# Altium footprint library 采集主板V1.1_ZM_20210713.PcbLib: 37 footprints (part 1 of 3)
Each footprint in its own frame and in the unit in brackets; x right, y up, seen from the top. Pads: shape width x height; smd on the part's side, far side on the other; paste and mask are expansions set on the pad; w line width, h text height; cw(c..) or ccw(c..) is an arc to the next point about the centre after c.
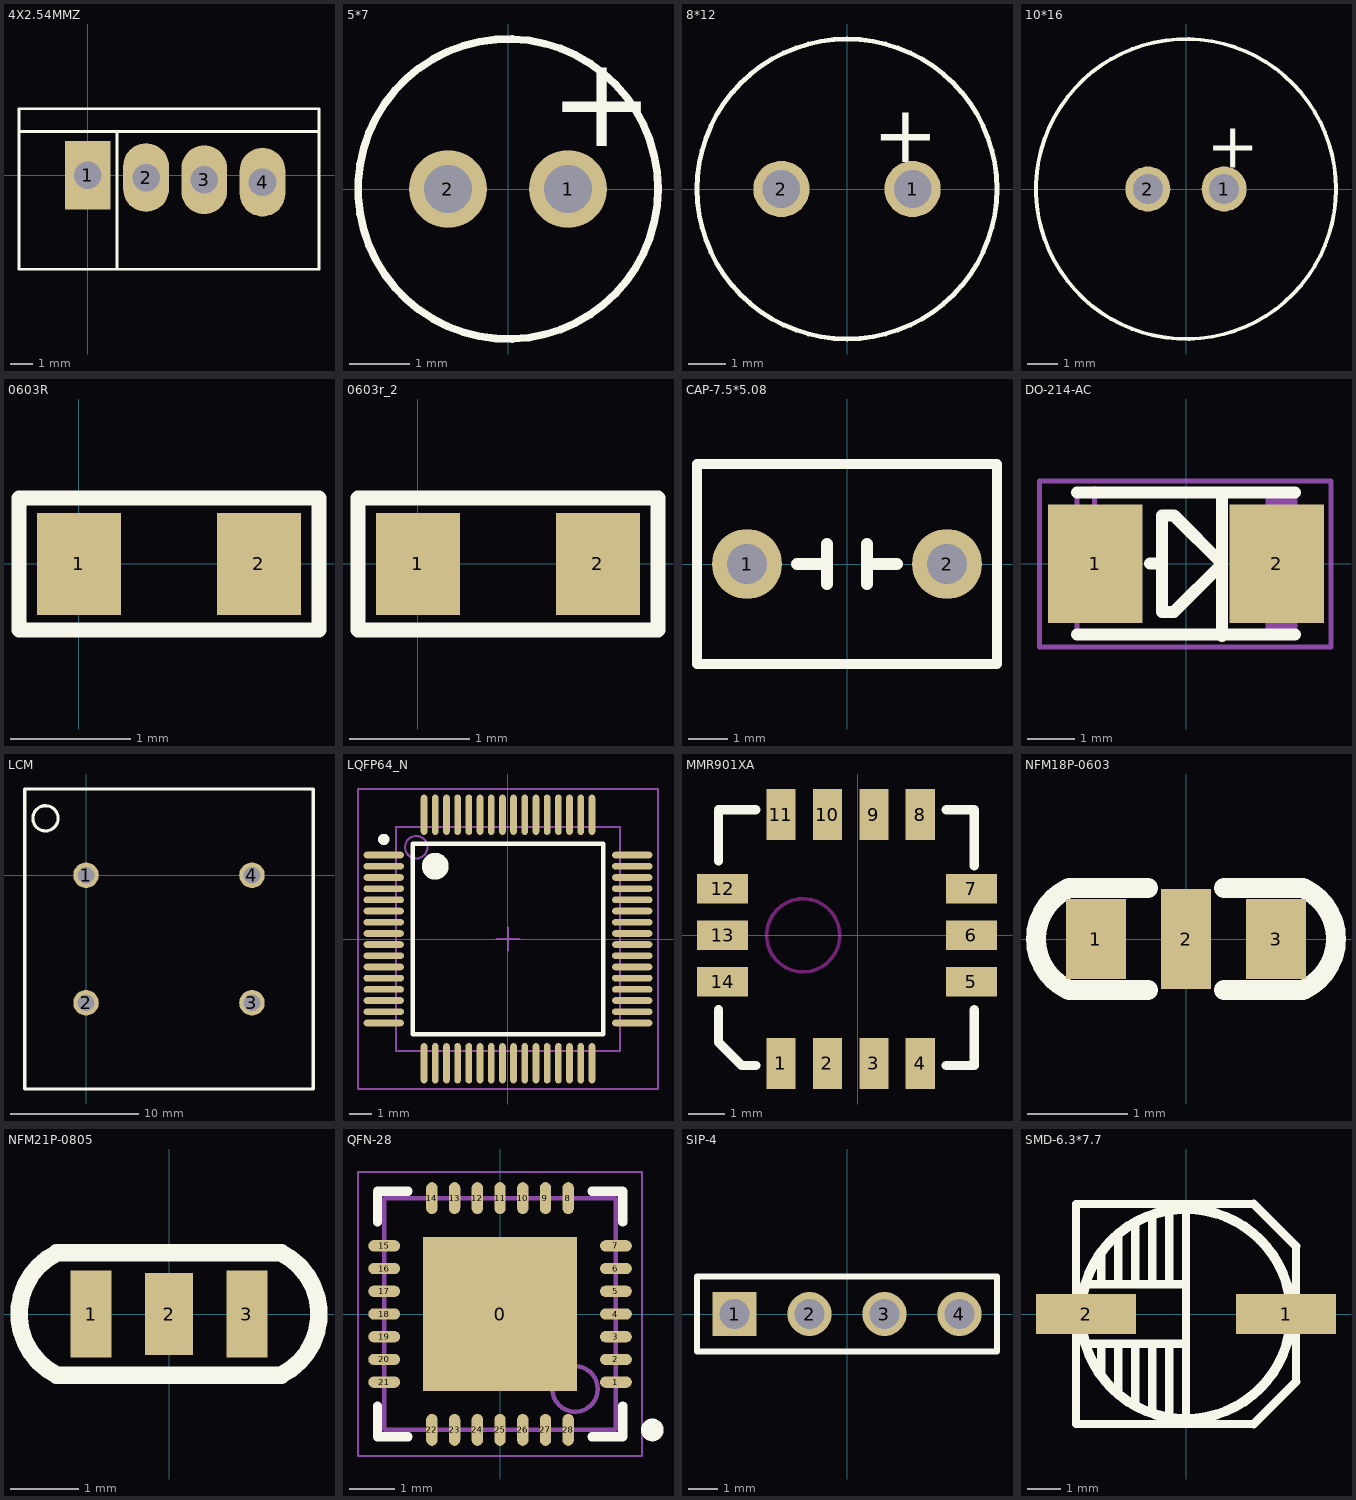
[diagram p0: the footprints below, top view; thin cyan lines are the x and y axes]

## 4X2.54MMZ [mm] "接插件2.54-3P"
height 10
pads (4):
  rect 2x3 hole 1.2: 1(0,0)
  oval 2x3 hole 1.2: 2(2.54,-0.1) 3(5.08,-0.2) 4(7.62,-0.3)
Top Overlay:
  lines w0.127: -3,1.9 10.084,1.9 ; 1.27,-4.1 1.27,1.9 ; -3,-4.1 10.084,-4.1 10.084,2.9 -3,2.9 -3,-4.1

## 5*7 [mm]
pads (2):
  round 1.3 hole 0.8: 1(1,0) 2(-1,0)
Top Overlay:
  circle w0.127: c0,0 r2.5
  text "+" at 0.686,0.711 h1.52

## 8*12 [mm]
pads (2):
  round 1.5 hole 1: 1(1.75,0) 2(-1.75,0)
Top Overlay:
  circle w0.127: c0,0 r4
  text "+" at 0.686,0.711 h1.52

## 10*16 [mm]
pads (2):
  round 1.5 hole 1: 1(1.27,0) 2(-1.27,0)
Top Overlay:
  circle w0.127: c0,0 r5
  text "+" at 0.686,0.711 h1.52

## 0603R [mm]
pads (2):
  rect 0.7x0.85 smd: 1(0,0) 2(1.5,0)
Top Overlay:
  lines w0.127: -0.5,-0.55 2,-0.55 2,0.55 -0.5,0.55 -0.5,-0.55

## 0603r_2 [mm]
pads (2):
  rect 0.7x0.85 smd: 1(0,0) 2(1.5,0)
Top Overlay:
  lines w0.127: -0.5,-0.55 2,-0.55 2,0.55 -0.5,0.55 -0.5,-0.55

## CAP-7.5*5.08 [mil]
height 393.7
pads (2):
  round 70 hole 40: 1(-100,0) 2(100,0)
Top Overlay:
  lines w10: -150,-100 -150,100 150,100 150,-100 -150,-100
  lines w11.81: -50,0 -20,0 ; -20,-20 -20,20 ; 20,-20 20,20 ; 20,0 50,0

## DO-214-AC [mm] "Molded Diode, 2-Leads, Body 4.5x2.6mm, IPC Medium Density"
height 2.438
pads (2):
  rect 2x2.5 smd: 1(-1.915,0) 2(1.915,0)
Top Overlay:
  lines w0.254: -2.3,-1.5 2.3,-1.5 ; -2.3,1.5 2.3,1.5 ; -0.762,0 -0.508,0 ; 0.762,-1.524 0.762,1.473 ; -0.508,-1.016 -0.254,-1.016 0.762,0 -0.254,1.016 -0.508,1.016 -0.508,-1.016
Mechanical 13:
  rectangle: 1.681,-1.475 2.3,1.475
  lines w0.1: -2.3,-1.475 -2.3,1.475 2.3,1.475 2.3,-1.475 -2.3,-1.475
Mechanical 15:
  lines w0.1: -2.43,1.092 -1.43,1.092 ; -1.93,0.592 -1.93,1.592 ; -3.09,-1.758 3.06,-1.758 3.06,1.742 -3.09,1.742 -3.09,-1.758
3D body: height 2.4, standoff 0, extent -2.3,-1.35 2.3,1.35

## LCM [mm]
pads (4):
  round 2 hole 1.3: 1(0,0) 2(0,-10) 3(13,-10) 4(13,0)
Top Overlay:
  circle w0.254: c-3.179,4.453 r0.988
  lines w0.254: -4.8,-16.75 -4.8,6.75 17.8,6.75 17.8,-16.75 -4.8,-16.75

## LQFP64_N [mm] "Thin QFP, 64-Leads, Body 10x10mm, Pitch 0.5mm, IPC Medium Density"
height 1.6
pads (64):
  oval 1.8x0.3 smd: 1(-5.55,3.75) 2(-5.55,3.25) 3(-5.55,2.75) 4(-5.55,2.25) 5(-5.55,1.75) 6(-5.55,1.25) 7(-5.55,0.75) 8(-5.55,0.25) 9(-5.55,-0.25) 10(-5.55,-0.75) 11(-5.55,-1.25) 12(-5.55,-1.75) 13(-5.55,-2.25) 14(-5.55,-2.75) 15(-5.55,-3.25) 16(-5.55,-3.75) 33(5.55,-3.75) 34(5.55,-3.25) 35(5.55,-2.75) 36(5.55,-2.25) 37(5.55,-1.75) 38(5.55,-1.25) 39(5.55,-0.75) 40(5.55,-0.25) 41(5.55,0.25) 42(5.55,0.75) 43(5.55,1.25) 44(5.55,1.75) 45(5.55,2.25) 46(5.55,2.75) 47(5.55,3.25) 48(5.55,3.75)
  oval 0.3x1.8 smd: 17(-3.75,-5.55) 18(-3.25,-5.55) 19(-2.75,-5.55) 20(-2.25,-5.55) 21(-1.75,-5.55) 22(-1.25,-5.55) 23(-0.75,-5.55) 24(-0.25,-5.55) 25(0.25,-5.55) 26(0.75,-5.55) 27(1.25,-5.55) 28(1.75,-5.55) 29(2.25,-5.55) 30(2.75,-5.55) 31(3.25,-5.55) 32(3.75,-5.55) 49(3.75,5.55) 50(3.25,5.55) 51(2.75,5.55) 52(2.25,5.55) 53(1.75,5.55) 54(1.25,5.55) 55(0.75,5.55) 56(0.25,5.55) 57(-0.25,5.55) 58(-0.75,5.55) 59(-1.25,5.55) 60(-1.75,5.55) 61(-2.25,5.55) 62(-2.75,5.55) 63(-3.25,5.55) 64(-3.75,5.55)
Top Overlay:
  circle w0.6: c-3.25,3.25 r0.3
  circle w0.25: c-5.55,4.45 r0.125
  lines w0.2: -4.25,-4.25 4.25,-4.25 4.25,4.25 -4.25,4.25 -4.25,-4.25
Mechanical 13:
  circle w0.1: c-4.1,4.1 r0.5
  lines w0.1: -5,-5 5,-5 5,5 -5,5 -5,-5
Mechanical 15:
  lines w0.1: -0.5,0 0.5,0 ; 0,-0.5 0,0.5 ; -6.7,-6.7 6.7,-6.7 6.7,6.7 -6.7,6.7 -6.7,-6.7
3D body: height 1.6, standoff 0, extent -5,-5 5,5

## MMR901XA [mm] "传感器"
height 10
pads (14):
  rect 0.8x1.4 smd: 1(-2.105,-3.5) 2(-0.835,-3.5) 3(0.435,-3.5) 4(1.705,-3.5) 8(1.705,3.3) 9(0.435,3.3) 10(-0.835,3.3) 11(-2.105,3.3)
  rect 1.4x0.8 smd: 5(3.1,-1.27) 6(3.1,0) 7(3.1,1.27) 12(-3.7,1.27) 13(-3.7,0) 14(-3.7,-1.27)
Top Overlay:
  lines w0.254: -3.81,-2.032 -3.81,-2.921 -3.175,-3.556 -2.794,-3.556 ; -3.81,2.032 -3.81,3.429 -2.794,3.429 ; 2.413,-3.556 3.175,-3.556 3.175,-2.032 ; 2.413,3.429 3.175,3.429 3.175,1.905
Keep-Out Layer:
  circle w0.1: c-1.5,0 r1

## NFM18P-0603 [mm] "三端滤波电容"
height 10
pads (3):
  rect 0.6x0.8 smd: 1(-0.9,0) 3(0.9,0)
  rect 0.5x1 smd: 2(0,0)
Top Overlay:
  lines w0.2: -1.176,-0.506 cw(c-0.94,0) -1.176,0.506 ; -1.168,-0.508 -0.381,-0.508 ; -1.168,0.508 -0.381,0.508 ; 0.381,-0.508 1.168,-0.508 ; 0.381,0.508 1.168,0.508 ; 1.176,-0.506 ccw(c0.94,0) 1.176,0.506

## NFM21P-0805 [mm] "三端滤波电容"
pads (3):
  rect 0.6x1.27 smd: 1(-1.143,0) 3(1.143,0)
  rect 0.7x1.2 smd: 2(0,0)
Top Overlay:
  lines w0.254: -1.65,-0.9 1.65,-0.9 ; -1.65,0.9 1.65,0.9 ; -1.648,-0.894 cw(c-1.2,0) -1.641,0.897 ; 1.641,-0.897 ccw(c1.2,0) 1.648,0.894
3D body: height 0.85, standoff 0, extent -1,-0.625 1,0.625

## QFN-28 [mm]
height 1.75
pads (29):
  rect 3.38x3.38 smd: 0(0,0)
  oval 0.7x0.25 smd: 1(2.55,-1.5) 2(2.55,-1) 3(2.55,-0.5) 4(2.55,0) 5(2.55,0.5) 6(2.55,1) 7(2.55,1.5) 15(-2.55,1.5) 16(-2.55,1) 17(-2.55,0.5) 18(-2.55,0) 19(-2.55,-0.5) 20(-2.55,-1) 21(-2.55,-1.5)
  oval 0.25x0.7 smd: 8(1.5,2.55) 9(1,2.55) 10(0.5,2.55) 11(0,2.55) 12(-0.5,2.55) 13(-1,2.55) 14(-1.5,2.55) 22(-1.5,-2.55) 23(-1,-2.55) 24(-0.5,-2.55) 25(0,-2.55) 26(0.5,-2.55) 27(1,-2.55) 28(1.5,-2.55)
Top Overlay:
  circle w0.25: c3.35,-2.55 r0.125
  lines w0.2: -2.7,-2.025 -2.7,-2.7 -2.025,-2.7 ; -2.7,2.025 -2.7,2.7 -2.025,2.7 ; 2.025,-2.7 2.7,-2.7 2.7,-2.025 ; 2.025,2.7 2.7,2.7 2.7,2.025
Mechanical 13:
  circle w0.1: c1.65,-1.65 r0.5
  lines w0.1: -2.55,-2.55 -2.55,2.55 2.55,2.55 2.55,-2.55 -2.55,-2.55
Mechanical 15:
  lines w0.05: -3.125,-3.125 -3.125,3.125 3.125,3.125 3.125,-3.125 -3.125,-3.125
  lines w0.1: -0.5,0 0.5,0 ; 0,-0.5 0,0.5
3D body: height 1, standoff 0.1, extent -2.55,-2.55 2.55,2.55

## SIP-4 [mm]
height 10
pads (4):
  rect 1.5x1.5 hole 1: 1(-3.81,0)
  round 1.5 hole 1: 2(-1.27,0) 3(1.27,0) 4(3.81,0)
Top Overlay:
  lines w0.2: -5.08,-1.27 5.08,-1.27 5.08,1.27 -5.08,1.27 -5.08,-1.27

## SMD-6.3*7.7 [mm] "35V 100uF"
height 7.7
pads (2):
  rect 3x1.2 smd: 1(3,0) 2(-3,0)
Top Overlay:
  circle w0.3: c0,0 r3.15
  lines w0.254: -2.921,-0.889 0,-0.889 ; -2.921,0.889 0,0.889 ; -2.54,-1.778 -2.54,-0.889 ; -2.54,0.889 -2.54,1.905 ; -2.032,-2.413 -2.032,-0.889 ; -2.032,0.889 -2.032,2.413 ; -1.524,-2.667 -1.524,-0.889 ; -1.524,0.889 -1.524,2.667 ; -1.016,-2.921 -1.016,-0.889 ; -1.016,0.889 -1.016,2.921 ; -0.508,-3.048 -0.508,-0.889 ; -0.508,0.889 -0.508,3.048 ; 0,-3.15 0,3.15 ; 2.032,-3.302 3.302,-2.032 ; 2.032,-3.3 -3.3,-3.3 -3.3,3.3 2.032,3.3 ; 2.032,3.302 3.302,2.032 ; 3.3,-2.032 3.3,2.032
3D body: height 9.7, standoff 0.1, extent -3.374,-3.422 3.126,3.078